# Altium footprint library DIO_UCLAMP0571P.TNT.PcbLib: 1 footprints
Each footprint in its own frame and in the unit in brackets; x right, y up, seen from the top. Pads: shape width x height; smd on the part's side, far side on the other; paste and mask are expansions set on the pad; w line width, h text height; cw(c..) or ccw(c..) is an arc to the next point about the centre after c.
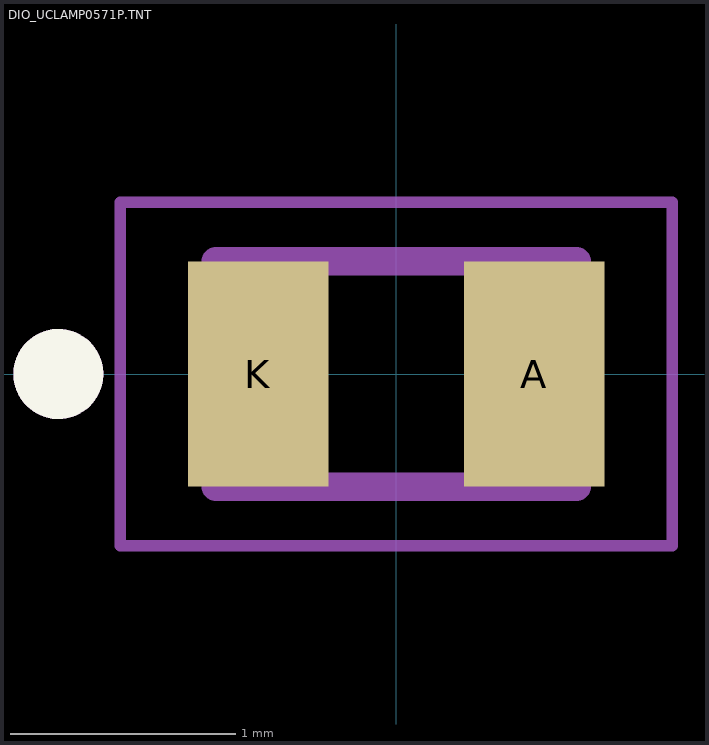
[diagram p0: the footprint, top view; thin cyan lines are the x and y axes]

## DIO_UCLAMP0571P.TNT [mm]
height 0.55
pads (2):
  rect 0.625x1 smd paste-1: A(0.613,0) K(-0.613,0)
Top Overlay:
  circle w0.2: c-1.5,0 r0.1
Top Paste:
  region: -0.275,-0.513 -0.975,-0.513 -0.975,0.513 -0.275,0.513
  region: 0.975,-0.513 0.275,-0.513 0.275,0.513 0.975,0.513
Mechanical 13:
  circle w0.2: c-1.5,0 r0.1
  lines w0.127: -0.8,-0.5 0.8,-0.5 0.8,0.5 -0.8,0.5 -0.8,-0.5
Mechanical 15:
  lines w0.05: -1.225,-0.763 1.225,-0.763 1.225,0.763 -1.225,0.763 -1.225,-0.763
3D body "step_temp.STEP": height 0.55, standoff 0, extent -0.8,-0.5 0.8,0.5